# EAGLE library part SKYWIRE_CELLULAR-MODEM (library BaseApp)
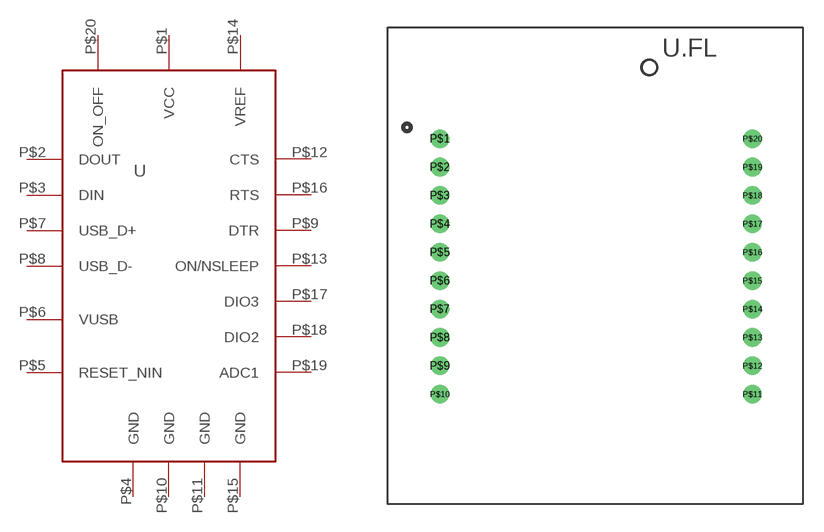
[diagram p141: symbol with the pads of SKYWIRE; footprint SKYWIRE]

Designator prefix -

## SKYWIRE_CELLULAR-MODEM  [SKYWIRE]
P$1  VCC
P$2  DOUT
P$3  DIN
P$4  GND
P$5  RESET_NIN
P$6  VUSB
P$7  USB_D+
P$8  USB_D-
P$9  DTR
P$10  GND
P$11  GND
P$12  CTS
P$13  ON/NSLEEP
P$14  VREF
P$15  GND
P$16  RTS
P$17  DIO3
P$18  DIO2
P$19  ADC1
P$20  ON_OFF

## Footprint SKYWIRE (pad centres in mm)
drill 0.8: P$1 -10.94,8.95; P$2 -10.94,6.95; P$3 -10.94,4.95; P$4 -10.94,2.95; P$5 -10.94,0.95; P$6 -10.94,-1.05; P$7 -10.94,-3.05; P$8 -10.94,-5.05; P$9 -10.94,-7.05; P$10 -10.94,-9.05; P$11 11.06,-9.05; P$12 11.06,-7.05; P$13 11.06,-5.05; P$14 11.06,-3.05; P$15 11.06,-1.05; P$16 11.06,0.95; P$17 11.06,2.95; P$18 11.06,4.95; P$19 11.06,6.95; P$20 11.06,8.95